# EAGLE library part 10118193-0001LF (library RTR Main Library)
Micro USB B Type Receptacle
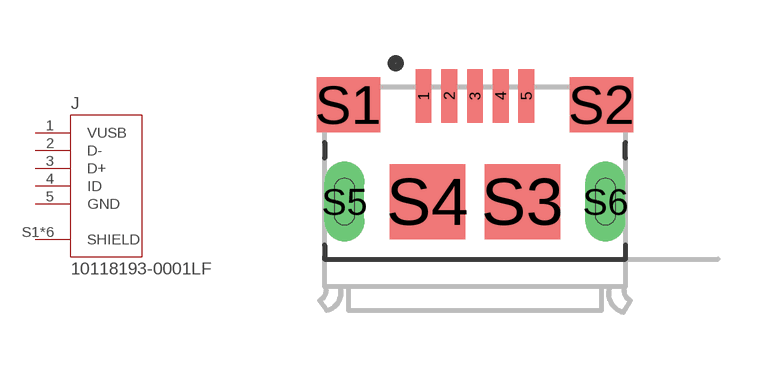
[diagram p4: symbol with the pads of FCI_10118193-0001LF; footprint FCI_10118193-0001LF]

Designator prefix J

## 10118193-0001LF (AVAILABILITY: Unavailable; DESCRIPTION: Single Port 5 Contact Shielded SMT MICRO USB B-Type Receptacle; MF: Amphenol ICC; MP: 10118193-0001LF; PACKAGE: None; PRICE: None)  [FCI_10118193-0001LF]
1  VUSB  pas
2  D-  pas
3  D+  pas
4  ID  pas
5  GND  pas
S1  SHIELD  pas
S2  SHIELD  pas
S3  SHIELD  pas
S4  SHIELD  pas
S5  SHIELD  pas
S6  SHIELD  pas

## Footprint FCI_10118193-0001LF (pad centres in mm)
smd 0.4 x 1.35: 1 -1.3,2.675; 2 -0.65,2.675; 3 0,2.675; 4 0.65,2.675; 5 1.3,2.675
smd 1.6 x 1.4: S1 -3.2,2.45; S2 3.2,2.45
smd 1.9 x 1.9: S3 1.2,0; S4 -1.2,0
drill 0.5 pad 0.9 long: S5 -3.3,0; S6 3.3,0